# Altium schematic symbol library Batterie_Überwachung.SCHLIB: 35 symbols
Pins are listed as number, name and electrical type; pins without a type are passive.

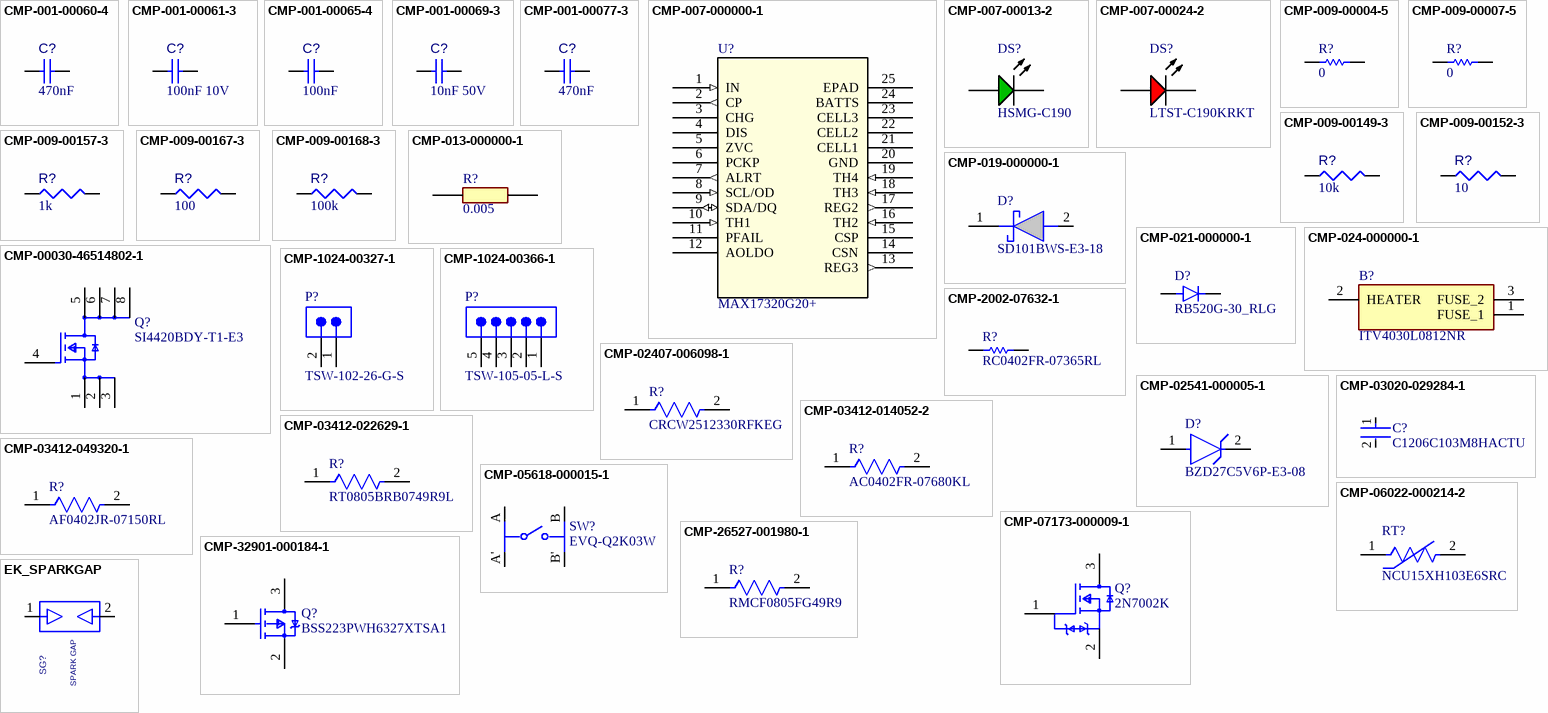
[diagram p0: symbols CMP-001-00060-4 to EK_SPARKGAP]

## CMP-001-00060-4
designator C?, comment value 470nF  (hidden comment: Capacitor 470nF +/-40% 10V 0402)
Chip Capacitor, 470nF +/-40%, 10V, 0402, Thickness 0.6 mm; Tolerance: 20%; Max Operating Temperature: 85°C; Case/Package: 0402; Voltage Rating: 10V; Min Operating Temperature: -55°C; Mounting Technology: SMT; Pins: 2
footprint CAPC0402(1005)60_L (Chip Capacitor, Body 1.0x0.5mm, Height 0.6mm, IPC High Density)
pins: 1, 2

## CMP-001-00061-3
designator C?, comment value 100nF 10V  (hidden comment: Capacitor 100nF +/-20% 10V 0402)
Chip Capacitor, 100nF +/-20%, 10V, 0402, Thickness 0.6 mm; Tolerance: 20%; Mounting Technology: SMT; Voltage Rating: 10V; Max Operating Temperature: 85°C; Pins: 2; Case/Package: 0402; Min Operating Temperature: -55°C
footprint CAPC0402(1005)60_L (Chip Capacitor, Body 1.0x0.5mm, Height 0.6mm, IPC High Density)
pins: 1, 2

## CMP-001-00065-4
designator C?, comment value 100nF  (hidden comment: Capacitor 100nF +/-20% 25V 0402)
Chip Capacitor, 100nF +/-20%, 25V, 0402, Thickness 0.6 mm; Tolerance: 10%; Max Operating Temperature: 85°C; Min Operating Temperature: -55°C; Pins: 2; Voltage Rating: 25V; Mounting Technology: SMT; Case/Package: 0402
footprint CAPC0402(1005)60_L (Chip Capacitor, Body 1.0x0.5mm, Height 0.6mm, IPC High Density)
pins: 1, 2

## CMP-001-00069-3
designator C?, comment value 10nF 50V  (hidden comment: Capacitor 10nF +/-20% 50V 0402)
Chip Capacitor, 10nF +/-20%, 50V, 0402, Thickness 0.6 mm; Tolerance: 5%; Max Operating Temperature: 85°C; Pins: 2; Case/Package: 0402; Voltage Rating: 50V; Min Operating Temperature: -55°C; Mounting Technology: SMT
footprint CAPC0402(1005)60_L (Chip Capacitor, Body 1.0x0.5mm, Height 0.6mm, IPC High Density)
pins: 1, 2

## CMP-001-00077-3
designator C?, comment value 470nF  (hidden comment: Capacitor 470nF +/-20% 25V 0603)
Chip Capacitor, 470nF +/-20%, 25V, 0603, Thickness 1 mm; Tolerance: 10%; Max Operating Temperature: 85°C; Voltage Rating: 25V; Pins: 2; Case/Package: 0603; Mounting Technology: SMT; Min Operating Temperature: -55°C
footprint CAPC0603(1608)100_L (Chip Capacitor, Body 1.6x0.8mm, Height 1.0mm, IPC High Density)
pins: 1, 2

## CMP-007-000000-1
designator U?, comment MAX17320G20+
2S-4S ModelGauge m5 EZ Fuel Gauge with Protector, Internal Self-Discharge Detection, and SHA-256 Authentication; Manufacturer_Name: Analog Devices Inc; Type: Type; Copyright: Copyright (C) 2025 Ultra Librarian. All rights reserved.; Design Item ID: MAX17320G20+; Manufacturer_Part_Number: MAX17320G20+; RefDes: RefDes; Source: MAX17320G20&plus_.SchLib
footprint 21-0139I_T2444-4_MXM
pins: 1 IN (in), 2 CP (out), 3 CHG, 4 DIS, 5 ZVC, 6 PCKP, 7 ALRT (out), 8 SCL/OD (in), 9 SDA/DQ (io), 10 TH1 (in), 11 PFAIL, 12 AOLDO, 13 REG3 (out), 14 CSN, 15 CSP, 16 TH2 (in), 17 REG2 (out), 18 TH3 (in), 19 TH4 (in), 20 GND (power), 21 CELL1, 22 CELL2, 23 CELL3, 24 BATTS, 25 EPAD (power)

## CMP-007-00013-2
designator DS?, comment HSMG-C190
LED Uni-Color Green, 52 mW, 20 mA, -40 to 85 degC, 2-Pin SMD, RoHS, Tape and Reel; Manufacturer: Avago; Forward Current: 20mA; Viewing Angle: 170degrees; Luminous Intensity: 15mcd; Lens Style: Diffused; Forward Voltage: 2.2V; Power: 52mW; Mounting Technology: SM; RoHS Compliant: True; Packaging: TapeandReel; Illumination Colour: Green; Datasheet URL: http://docs.avagotech.com/docs/AV02-0551EN; Min Operating Temperature: -40°C; Max Operating Temperature: 85°C; Pins: 2; Package Description: 2-Pin Surface Mount Device, Body 1.6 x 0.8 mm, Height 0.9 mm; Nominal Vf: 2.2V; Case/Package: 0603; Manufacturer URL: http://www.avagotech.com/; Datasheet Version: Mar-12; Colour: Green; Package Reference: HSMX-C190; Package Quantity: 4000
footprint AVAG-HSMX-C190_V (SMD, 2-Leads, Body 1.6x0.8mm, Height 0.9mm)
pins: 1 A, 2 K

## CMP-007-00024-2
designator DS?, comment LTST-C190KRKT
LED Uni-Color Red, 62.5 mW, 25 mA, -30 to 85 degC, 2-Pin SMD, RoHS, Tape and Reel; Manufacturer: Lite-On; Power: 75mW; Forward Voltage: 2V; Luminous Intensity: 54mcd; Lens Style: Diffused; Viewing Angle: 130degrees; Forward Current: 20mA; Manufacturer URL: http://www.us.liteon.com/; Case/Package: 0603; Datasheet Version: Rev. F, 05/2013; Package Reference: C191KRKT; Datasheet URL: http://optoelectronics.liteon.com/upload/download/DS-22-99-0151/S_110_LTST-C190KRKT.pdf; Package Description: 2-Pin Surface Mount Device, Body 1.6 x 0.8 mm; Nominal Vf: 2V; Packaging: TapeandReel; RoHS Compliant: True; Pins: 2; Illumination Colour: Red; Colour: Red; Mounting Technology: SM; Package Quantity: 3000; Min Operating Temperature: -55°C; Max Operating Temperature: 85°C
footprint LTST-C191KRKT_V (SMD, 2-Leads, Body 1.6x0.8mm)
pins: 1 A, 2 K

## CMP-009-00004-5
designator R?, comment value 0  (hidden comment: Resistor 0R 0402 63 mW)
Chip Resistor, 0 Ohm, 0.063 W, -55 to 155 degC, 0402 (1005 Metric); Power: 63mW; Voltage Rating: 50V; Max Operating Temperature: 155°C; Pins: 2; RoHS Compliant: True; Min Operating Temperature: -55°C; Mounting Technology: SM; Case/Package: 0402
footprint RESC1005X40X25ML05T10 (Chip Resistor, 2-Leads, Body 1.05x0.55mm, IPC Low Density)
footprint RESC1005X40X25NL05T10 (Chip Resistor, 2-Leads, Body 1.05x0.55mm, IPC Medium Density)
footprint RESC1005X40X25LL05T10 (Chip Resistor, 2-Leads, Body 1.05x0.55mm, IPC High Density)
pins: 1, 2

## CMP-009-00007-5
designator R?, comment value 0  (hidden comment: Resistor 0R +/- 5% 0805 125 mW)
Chip Resistor, 0 Ohm, 0.125 W, -55 to 155 degC, 0805 (2012 Metric); Power: 125mW; Voltage Rating: 50V; RoHS Compliant: True; Max Operating Temperature: 155°C; Case/Package: 0805; Mounting Technology: SM; Min Operating Temperature: -55°C; Tolerance: 5%; Pins: 2
footprint RESC2013X60X35ML10T20 (Chip Resistor, 2-Leads, Body 2.1x1.35mm, IPC Low Density)
footprint RESC2013X60X35NL10T20 (Chip Resistor, 2-Leads, Body 2.1x1.35mm, IPC Medium Density)
footprint RESC2013X60X35LL10T20 (Chip Resistor, 2-Leads, Body 2.1x1.35mm, IPC High Density)
pins: 1, 2

## CMP-009-00149-3
designator R?, comment value 10k  (hidden comment: Resistor 10K  +/-1 % 0402 63 mW)
Chip Resistor, 10 kOhms, +/-1 %, 63 mW, -55 to 125 degC, 0402; Power: 63mW; Tolerance: 1%; Min Operating Temperature: -55°C; Case/Package: 0402; Max Operating Temperature: 155°C; Pins: 2
footprint RESC0402(1005)_L (Chip Resistor, Body 1.0x0.5mm, IPC High Density)
pins: 1, 2
1 alternate drawing of the same symbol

## CMP-009-00152-3
designator R?, comment value 10  (hidden comment: Resistor 10R  +/-1 % 0402 63 mW)
Chip Resistor, 10 Ohms, +/-1 %, 63 mW, -55 to 155 degC, 0402; Tolerance: 1%; Power: 63mW; Pins: 2; Max Operating Temperature: 155°C; Min Operating Temperature: -55°C; Case/Package: 0402
footprint RESC0402(1005)_L (Chip Resistor, Body 1.0x0.5mm, IPC High Density)
pins: 1, 2
1 alternate drawing of the same symbol

## CMP-009-00157-3
designator R?, comment value 1k  (hidden comment: Resistor 1K +/-5 % 0402 63 mW)
Chip Resistor, 1 kOhms, +/-5 %, 63 mW, -55 to 155 degC, 0402; Tolerance: 5%; Power: 63mW; Case/Package: 0402; Pins: 2; Min Operating Temperature: -55°C; Max Operating Temperature: 155°C
footprint RESC0402(1005)_L (Chip Resistor, Body 1.0x0.5mm, IPC High Density)
pins: 1, 2
1 alternate drawing of the same symbol

## CMP-009-00167-3
designator R?, comment value 100  (hidden comment: Resistor 100R +/-1 % 0402 63 mW)
Chip Resistor, 100 Ohms, +/-1 %, 63 mW, -55 to 155 degC, 0402; Power: 63mW; Tolerance: 1%; Min Operating Temperature: -55°C; Case/Package: 0402; Pins: 2; Max Operating Temperature: 155°C
footprint RESC0402(1005)_L (Chip Resistor, Body 1.0x0.5mm, IPC High Density)
pins: 1, 2
1 alternate drawing of the same symbol

## CMP-009-00168-3
designator R?, comment value 100k  (hidden comment: Resistor 100K +/-1 % 0402 63 mW)
Chip Resistor, 100 kOhms, +/-1 %, 63 mW, -55 to 155 degC, 0402; Tolerance: 1%; Power: 63mW; Max Operating Temperature: 155°C; Min Operating Temperature: -55°C; Pins: 2; Case/Package: 0402
footprint RESC0402(1005)_L (Chip Resistor, Body 1.0x0.5mm, IPC High Density)
pins: 1, 2
1 alternate drawing of the same symbol

## CMP-013-000000-1
designator R?, comment 0.005
TT ELECTRONICS / WELWYN - MFC0603-R005FT5 - CURRENT SENSE RES, 0R005, 1%, 500 MW; Geometry.Height: 0.8mm; Mouser Part Number: 756-MFC0603-R005FT5; Manufacturer_Part_Number: MFC0603-R005FT5; Source: MFC0603-R005FT5.SchLib; Datasheet Link: https://componentsearchengine.com/Datasheets/1/MFC0603-R005FT5.pdf; Design Item ID: MFC0603-R005FT5; Mouser Price/Stock: https://www.mouser.com/Search/Refine.aspx?Keyword=756-MFC0603-R005FT5; Manufacturer_Name: TT Electronics
footprint RESC1608X80N
pins: 1, 2

## CMP-019-000000-1
designator D?, comment SD101BWS-E3-18
Schottky Diodes & Rectifiers 30mA 50Volt 2A IFSM; Manufacturer_Name: Vishay; Geometry.Height: 1.15mm; Design Item ID: SD101BWS-E3-18; Mouser Part Number: 78-SD101BWS-E3-18; Mouser Price/Stock: https://www.mouser.co.uk/ProductDetail/Vishay-Semiconductors/SD101BWS-E3-18?qs=S660mHfF5o09vR8sqS5amQ%3D%3D; Manufacturer_Part_Number: SD101BWS-E3-18; Datasheet Link: http://www.vishay.com/docs/85680/sd101aws.pdf; Source: SD101BWS-E3-18.SchLib
footprint SOD2713X115N
pins: 1 K, 2 A

## CMP-021-000000-1
designator D?, comment RB520G-30_RLG
SOD-723F, 30V, 0.1A, Schottky Diode; MF: Taiwan Semiconductor; MP: RB520G-30 RLG; Value: *; Pin Count: 2; SnapEDA_Link: https://www.snapeda.com/parts/RB520G-30%20RLG/Taiwan+Semiconductor/view-part/?ref=snap; Design Item ID: RB520G-30_RLG; Check_prices: https://www.snapeda.com/parts/RB520G-30%20RLG/Taiwan+Semiconductor/view-part/?ref=eda; Component Type: Standard; Source: RB520G-30_RLG.SchLib; Package: SOD-723F Taiwan Semiconductor
footprint DIO_RB520G-30_RLG
pins: A, C K

## CMP-024-000000-1
designator B?, comment ITV4030L0812NR
Battery Management ITV 4.0*3.0MM 8V 12A; Manufacturer_Name: LITTELFUSE; Geometry.Height: 0.9mm; Mouser Part Number: 650-ITV4030L0812NR; Arrow Price/Stock: https://www.arrow.com/en/products/itv4030l0812nr/littelfuse?utm_currency=USD&region=nac; Datasheet Link: https://www.digikey.ph/en/products/detail/littelfuse-inc/ITV4030L0812NR/11618324?msockid=39f1ec84d77b6f4428b7f904d6676eed; Design Item ID: ITV4030L0812NR; Mouser Price/Stock: https://www.mouser.co.uk/ProductDetail/Littelfuse/ITV4030L0812NR?qs=vHuUswq2%252Bsyi6DFHI7u4jA%3D%3D; Source: ITV4030L0812NR.SchLib; Manufacturer_Part_Number: ITV4030L0812NR; Arrow Part Number: ITV4030L0812NR
footprint ITV4030L0812NR
pins: 1 FUSE_1, 2 HEATER, 3 FUSE_2

## CMP-00030-46514802-1
designator Q?, comment SI4420BDY-T1-E3
SI4420BDY-T1-E3 Si4420BDY Series 30 V 9.5 A 8.5 mOhm Surface Mount N-Channel Mosfet - SOIC-8; NexarPartId: 46514802; Number of Channels: 1; Turn-Off Delay Time: 40ns; Power Dissipation: 1.4W; Rds On Max: 8.5mΩ; Gate to Source Voltage (Vgs): 20V; Forward Voltage: 750mV; Max Junction Temperature (Tj): 150°C; Rise Time: 11ns; Turn-On Delay Time: 15ns; Fall Time: 12ns; Drain to Source Breakdown Voltage: 30V; Threshold Voltage: 3V; Drain to Source Resistance: 7mΩ; Element Configuration: Single; Continuous Drain Current (ID): 9.5A; Mount: Surface Mount; Length: 5mm; Weight: 186.993455mg; Number of Elements: 1; REACH SVHC: Unknown; Width: 4mm; RoHS: Compliant; Max Operating Temperature: 150°C; Case/Package: SOIC; Lead Free: Lead Free; Max Power Dissipation: 1.4W; Height: 1.55mm; Radiation Hardening: No; Min Operating Temperature: -55°C; Schedule B: 8541290080, 8541290080; Resistance: 8.5mΩ; Drain to Source Voltage (Vdss): 30V; Number of Pins: 8
footprint FP-C-06527-MFG (Trans MOSFET P-CH 40V 17.3A Automotive 8-Pin SOIC N T/R)
footprint FP-C-06527-IPC_A (Trans MOSFET P-CH 40V 17.3A Automotive 8-Pin SOIC N T/R)
footprint FP-C-06527-IPC_B (Trans MOSFET P-CH 40V 17.3A Automotive 8-Pin SOIC N T/R)
footprint FP-C-06527-IPC_C (Trans MOSFET P-CH 40V 17.3A Automotive 8-Pin SOIC N T/R)
pins: 1 S, 2 S, 3 S, 4 G, 5 D, 6 D, 7 D, 8 D

## CMP-1024-00327-1
designator P?, comment TSW-102-26-G-S
0.025" SQ Post Header, Through-hole, Vertical, -55 to 125 degC, 2.54 mm Pitch, 2-Pin, Male, RoHS; Manufacturer: Samtec; Pitch: 2.54 mm; Orientation: Vertical; ComponentLink3Description: Package Specification; PackageReference: TSW-102-26-XX-S; Mounting Technology: Through-hole; ComponentLink2Description: Datasheet; ComponentLink1URL: http://www.samtec.com; DatasheetVersion: F-214; ComponentLink1Description: Manufacturer URL; RoHS: True; ComponentLink2URL: http://www.samtec.com/documents/webfiles/pdf/TSW_TH.PDF; PartNumber: TSW-102-26-G-S; ComponentLink3URL: http://www.samtec.com/documents/webfiles/cpdf/TSW-XXX-XX-XXX-X-XX-XXX-MKT.pdf; PackageDescription: .025[0.64] SQ. Post Terminal Strip Assembly; PackageVersion: DM, 8/1988; Temperature Range: -55 to 125 degC
footprint SMTC-TSW-102-26-XX-S (.025 SQ Post Terminal Strip Assembly, 1x2 Pins, Vertical, 2.54mm Pitch, Male)
pins: 1, 2

## CMP-1024-00366-1
designator P?, comment TSW-105-05-L-S
0.025" SQ Post Header, Through-hole, Vertical, -55 to 125 degC, 2.54 mm Pitch, 5-Pin, Male, RoHS; Manufacturer: Samtec; Pitch: 2.54 mm; PackageVersion: DM, 8/1988; PartNumber: TSW-105-05-L-S; Orientation: Vertical; Temperature Range: -55 to 125 degC; ComponentLink1Description: Manufacturer URL; PackageDescription: .025[0.64] SQ. Post Terminal Strip Assembly; ComponentLink2URL: http://www.samtec.com/documents/webfiles/pdf/TSW_TH.PDF; PackageReference: TSW-105-05-X-S; ComponentLink2Description: Datasheet; Mounting Technology: Through-hole; DatasheetVersion: F-214; ComponentLink1URL: http://www.samtec.com; RoHS: True; ComponentLink3URL: http://www.samtec.com/documents/webfiles/cpdf/TSW-XXX-XX-XXX-X-XX-XXX-MKT.pdf; ComponentLink3Description: Package Specification
footprint SMTC-TSW-105-05-X-S (.025 SQ Post Terminal Strip Assembly, 1x5 Pins, Vertical, 2.54mm Pitch, Male)
pins: 1, 2, 3, 4, 5

## CMP-2002-07632-1
designator R?, comment RC0402FR-07365RL
Manufacturer: Yageo; Part Number: RC0402FR-07365RL
footprint RESC1005X40X25NL05T10 (Chip Resistor, 2-Leads, Body 1.00x0.50mm, IPC Medium Density)
footprint RESC1005X40X25ML05T10 (Chip Resistor, 2-Leads, Body 1.00x0.50mm, IPC Low Density)
footprint RESC1005X40X25LL05T10 (Chip Resistor, 2-Leads, Body 1.00x0.50mm, IPC High Density)
pins: 1, 2
1 alternate drawing of the same symbol

## CMP-02407-006098-1
designator R?, comment CRCW2512330RFKEG
RES Thick Film, 330Ω, 1%, 1W, 100ppm/°C, 2512; Resistance: 330R; Voltage Rating (DC): 500V; Tolerance: 1%; Depth: 3.15mm; Case/Package: 2512; Lead Free: Lead Free; Contact Plating: Tin; Length: 0.248inch; Width: 0.124inch; Max Power Dissipation: 1W; Military Standard: Not; Packaging: Tape and Reel; Height: 0.028inch; Number of Terminations: 2; Composition: Thick Film; Temperature Coefficient: 100ppm/°C; Radiation Hardening: No; Max Operating Temperature: 155°C; Min Operating Temperature: -55°C; Power Rating: 1W
footprint FP-CRCW2512-e3-MFG
footprint FP-CRCW2512-e3-IPC_B
footprint FP-CRCW2512-e3-IPC_C
footprint FP-CRCW2512-e3-IPC_A
pins: 1, 2

## CMP-02541-000005-1
designator D?, comment BZD27C5V6P-E3-08
DIODE ZENER 5.6V 800MW DO219AB; Manufacturer: Vishay; Max Reverse Leakage Current: 10uA; Max Junction Temp: +175°C; Zener Impedance: 2Ω; Reverse Voltage: 2V; Forward Current: 0.2A; Max Zener Voltage: 6V; Standoff Height: 0mm; Automotive Grade: NA; Description: Diode Zener Single 5.6V 7% 800mW 2-Pin SMF T/R; Digikey Description: DIODE ZENER 5.6V 800MW DO219AB; Package: S8-V-3915.01-001; RoHS: TRUE; Octopart: https://octopart.com/bzd27c5v6p-e3-08-vishay-30317385; Nom Zener Voltage: 5.6V; Temperature Range Low: -65°C; ComponentLink2Description: Datasheet; ComponentLink2URL: http://www.vishay.com/docs/85153/bzd27series.pdf; Lead Free: Yes; Power Dissipation: 800mW; Manufacturer Part Number: BZD27C5V6P-E3-08; Category: Diode; Height: 1.08mm; Mouser Description: Diode Zener Single 5.6V 800mW 2-Pin DO-219AB T/R; Temperature: -65°C to +175°C; Device Class L2: Diodes; Device Class L3: Zener Diodes; Temperature Range High: +175°C; Automotive: No; Device Class L1: Discrete Semiconductors
footprint FP-S8-V-3915_01-001-MFG
pins: 1 A, 2 C

## CMP-03020-029284-1
designator C?, comment C1206C103M8HACTU
C1206 10,000 pF X8R 20.00% 10 V; Manufacturer: KEMET; Automotive Grade: Grade 0; Temperature Coefficient: 15%; Tolerance: 0.2; Material: Ceramic; Voltage Rating: 10 V; Category: Cap; Manufacturer Part Number: C1206C103M8HACTU; Package: C1206C-EB; Automotive: Yes; Temperature Range High: +150°C; RoHS: TRUE; Capacitance: 10,000 pF; Temperature: -55°C to +150°C; Temperature Characteristic: X8R; ComponentLink2Description: Datasheet; Value: 10,000 pF; Octopart: https://octopart.com/c1206c103m8hactu-kemet-88727734; ComponentLink2URL: https://content.kemet.com/datasheets/KEM_C1007_X8R_ULTRA_150C_SMD.pdf; Device Class L2: Capacitors; Temperature Range Low: -55°C; Lead Free: Yes; Device Class L3: Ceramic Capacitors; Ipc Land Pattern Name: CAPC320160X78; Height: 0.88mm; Device Class L1: Passive Components
footprint FP-C1206C-EB-MFG
footprint FP-C1206C-EB-IPC_C
footprint FP-C1206C-EB-IPC_B
footprint FP-C1206C-EB-IPC_A
pins: 1, 2

## CMP-03412-014052-2
designator R?, comment AC0402FR-07680KL
RES 680kΩ ±1% 0.063W 0402; Max Power Dissipation: 63mW; Resistance: 680kR; Temperature Coefficient: 100ppm/°C; Military Standard: Not; Width: 0.02inch; Number of Terminations: 2; Length: 0.039inch; Features: Moisture Resistant; Resistor Type: Thick Film; Packaging: Tape and Reel; Max Operating Temperature: 155°C; Case/Package: 0402; Min Operating Temperature: -55°C; Series: AC; Depth: 0.5mm; Height: 0.015inch; Tolerance: 1%; RoHS Compliant: Yes
footprint FP-AC0402-IPC_C
footprint FP-AC0402-MFG
footprint FP-AC0402-IPC_A
footprint FP-AC0402-IPC_B
pins: 1, 2

## CMP-03412-022629-1
designator R?, comment RT0805BRB0749R9L
RES SMD 49.9 OHM 0.1% 1/8W 0805; Manufacturer: Yageo; Temperature Coefficient: 10 ppm/°C; Power Rating: 0.125W; Value: 49.9Ω; Tolerance: 0.0025; Voltage Rating: 150V; Description: RT0805 49.9Ω 0.125W 10 ppm/°C 0.25%; Temperature: -55°C to +155°C; Series: RT; Device Class L3: Chip SMD Resistors; Package: RT0805; Automotive: No; Octopart: https://octopart.com/rt0805brb0749r9l-yageo-71397623; RoHS: TRUE; Height: 0.6mm; Lead Free: Yes; Temperature Range Low: -55°C; Ipc Land Pattern Name: RESC200125X50; Device Class L1: Passive Components; Category: Res; Composition: Thin Film; ComponentLink2URL: http://www.yageo.com/documents/recent/PYu-RT_1-to-0.01_RoHS_L_9.pdf; Device Class L2: Resistors; ComponentLink2Description: Datasheet; Footprint Url: http://www.yageo.com/exep/pages/download/literatures/PYu-R_Mount_10.pdf; Temperature Range High: +155°C; Resistance: 49.9Ω; Manufacturer Part Number: RT0805BRB0749R9L; Digikey Description: RES SMD 49.9 OHM 0.1% 1/8W 0805
footprint FP-RT0805-MFG
footprint FP-RT0805-IPC_C
footprint FP-RT0805-IPC_B
footprint FP-RT0805-IPC_A
pins: 1, 2

## CMP-03412-049320-1
designator R?, comment AF0402JR-07150RL
Anti-Sulfurated Chip Resistors Automotive Grade 150Ω 5% 100ppm/°C 0402; Max Power Dissipation: 63mW; Resistance: 150R; Number of Terminations: 2; Features: Moisture Resistant; RoHS Compliant: Yes; Length: 0.039inch; Resistor Type: Thick Film; Height: 0.015inch; Max Operating Temperature: 155°C; Temperature Coefficient: 100ppm/°C; Width: 0.02inch; Min Operating Temperature: -55°C; Series: AF; Case/Package: 0402; Packaging: Tape and Reel; Tolerance: 5%
footprint FP-AF0402-IPC_B
footprint FP-AF0402-IPC_A
footprint FP-AF0402-MFG
footprint FP-AF0402-IPC_C
pins: 1, 2

## CMP-05618-000015-1
designator SW?, comment EVQ-Q2K03W
SWITCH TACTILE SPST-NO 0.02A 15V; Manufacturer: Panasonic Electronic Components; Contact Resistance: 100mΩ; Electromechanical Life: 1000000Cycles; Contact Current Rating: 20mA; Operating Force: 1.3N; Description: Switch Tactile ON OFF SPST Round Button J-Bend 0.02A 15VDC 1.3N SMD Embossed T/R; Mount: Surface Mount; Mouser Description: Tactile Switches 1.3NF 6.5x6.0x3.1mm; Device Class L2: Switches; RoHS: TRUE; Lead Free: Yes; Temperature Range Low: -40°C; Height: 3.3mm; Automotive: No; Device Class L3: Tactile Switches; Manufacturer Part Number: EVQ-Q2K03W; ComponentLink2URL: https://industrial.panasonic.com/cdbs/www-data/pdf/ATK0000/ATK0000C360.pdf; Throw Configuration: SPST-NO; Temperature: -40°C to +85°C; ComponentLink2Description: Datasheet; Device Class L1: Electromechanical; Voltage Rating Dc: 15V; Package: 0; Temperature Range High: +85°C; Octopart: https://octopart.com/evq-q2k03w-panasonic-1224370; Category: Switch; Digikey Description: SWITCH TACTILE SPST-NO 0.02A 15V
footprint FP-EVQ-Q2K03W-MFG
pins: A, A', B, B'

## CMP-06022-000214-2
designator RT?, comment NCU15XH103E6SRC
NTC Thermistor for Temperature Sensor, Automotive, 0402, 10kΩ, 3%, 0.1mA, 5V; RoHS Compliant: Yes
footprint FP-NCP15-NCU15-0_05-IPC_A
footprint FP-NCP15-NCU15-0_05-MFG
footprint FP-NCP15-NCU15-0_05-IPC_B
footprint FP-NCP15-NCU15-0_05-IPC_C
pins: 1, 2

## CMP-07173-000009-1
designator Q?, comment 2N7002K
MOSFET N-CH 60V 300MA SOT23; Manufacturer: ON Semiconductor; Turn Off Delay Time: 55.8ns; Max Forward Diode Voltage: 1.2V; Max Junction Temp: +150°C; Pulse Drain Current: 5A; Threshold Vgs Min: 1V; Depletion Mode: False; Drain To Source Resistance: 1.19Ω; Number Of N Channels: 1; Standoff Height: 0.01mm; Rthja Max: 417°C/W; Input Capacitace At Vds: 24.5pF @ 20V; Threshold Vgs Max: 2.3V; Turn On Delay Time: 12.2ns; Gate Charge At Vgs: 0.7nC @ 4.5V; Continuous Drain Current: 320mA; Transconductance: 0.53S; Power Dissipation: 300mW; Gate To Source Voltage: 20V; Typ Forward Diode Voltage: 0.8V; ComponentLink2URL: https://www.onsemi.com/pub/Collateral/2N7002K-D.pdf; RoHS: TRUE; Device Class L1: Discrete Semiconductors; ComponentLink2Description: Datasheet; Manufacturer Part Number: 2N7002K; Octopart: https://octopart.com/2n7002k-on+semiconductor-84408900; Device Class L3: MOSFETs; Mouser Description: N-Channel 60 V 2 Ohm SMT Enhancement Mode Field Effect Transistor SOT-23; Ipc Land Pattern Name: SOT95P240X100-3; Temperature Range High: +150°C; Temperature Range Low: -55°C; Lead Free: Yes; Height: 1.11mm; Package: 318-08; Footprint Url: https://www.onsemi.com/pub/Collateral/318-08.PDF; Temperature: -55°C to +150°C; Drain To Source Voltage: 60V; Device Class L2: Transistors; Drain To Source Breakdown Voltage: 60V; Digikey Description: MOSFET N-CH 60V 300MA SOT23; Number Of Channels: 1; Category: Trans; Automotive: No
footprint FP-318-08-MFG
footprint FP-318-08-IPC_C
footprint FP-318-08-IPC_B
footprint FP-318-08-IPC_A
pins: 1 Gate, 2 Source, 3 Drain

## CMP-26527-001980-1
designator R?, comment RMCF0805FG49R9
49.9Ω ±1% 0.125W 0805 Thick Film Chip Resistor AEC-Q200 compliant; Temperature Coefficient: 100ppm/°C; Max Power Dissipation: 125mW; Resistance: 49.9R; Resistor Type: Thick Film; Packaging: Tape and Reel; Features: Automotive AEC-Q200; RoHS Compliant: Yes; Series: RMCF; Min Operating Temperature: -55°C; Max Operating Temperature: 155°C; Length: 0.079inch; Number of Terminations: 2; Width: 0.049inch; Height: 0.026inch; Case/Package: 0805; Tolerance: 1%
footprint FP-RMCF0805-IPC_C
footprint FP-RMCF0805-IPC_A
footprint FP-RMCF0805-MFG
footprint FP-RMCF0805-IPC_B
pins: 1, 2

## CMP-32901-000184-1
designator Q?, comment BSS223PWH6327XTSA1
MOSFET P-CH 20V 390MA SOT-323; Rds On Max: 1.2R; Max Power Dissipation: 250mW; Drain to Source Resistance: 2.1R; Turn-On Delay Time: 3.8ns; Threshold Voltage: -900mV; Element Configuration: Single; Turn-Off Delay Time: 5.1ns; Rise Time: 5ns; Gate to Source Voltage (Vgs): 12V; Drain to Source Voltage (Vdss): -20V; Input Capacitance: 56pF; Min Operating Temperature: -55°C; Mount: Surface Mount; Height: 0.8mm; Halogen Free: Halogen Free; REACH SVHC: No SVHC; Length: 2mm; Case/Package: SOT-323; Max Operating Temperature: 150°C; Packaging: Tape and Reel; Lead Free: Lead Free; Max Dual Supply Voltage: -20V; Continuous Drain Current (ID): 390mA; Number of Pins: 3; Width: 1.25mm
footprint FP-PG-SOT323-3-MFG
footprint FP-PG-SOT323-3-IPC_A
footprint FP-PG-SOT323-3-IPC_B
footprint FP-PG-SOT323-3-IPC_C
pins: 1 Gate, 2 Source, 3 Drain

## EK_SPARKGAP
designator SG?, comment SPARK GAP
EVKIT SPARK GAP; OriginalSymbolOrigin: (-100,50); PACK_TYPE: SMD; PCB Footprint_: EVKIT_SPARK_GAP; DRAWING: @MAX17320G_SOLDERDOWN_EVKIT_REVB.MAX17320G_SOLDERDOWN_EVKIT_REVB(SCH_1):PAGE2; PHYS_PAGE: 1; MAXINV: N/A; MFG_PART_NUMBER: SPARK GAP; TOLERANCE: N/A; VER: 1; VOLTAGE_RATING: N/A; MANUFACTURER: N/A; TEMP_RANGE: N/A
footprint EVKIT_SPARK_GAP
pins: 1 (io), 2 (io)